# EAGLE library part SKY65383-11 (library SKY65383-11)
HIGH POWER 2.4-GHZ FEM Source: Datasheet <https://componentsearchengine.com/Datasheets/1/SKY65383-11.pdf>
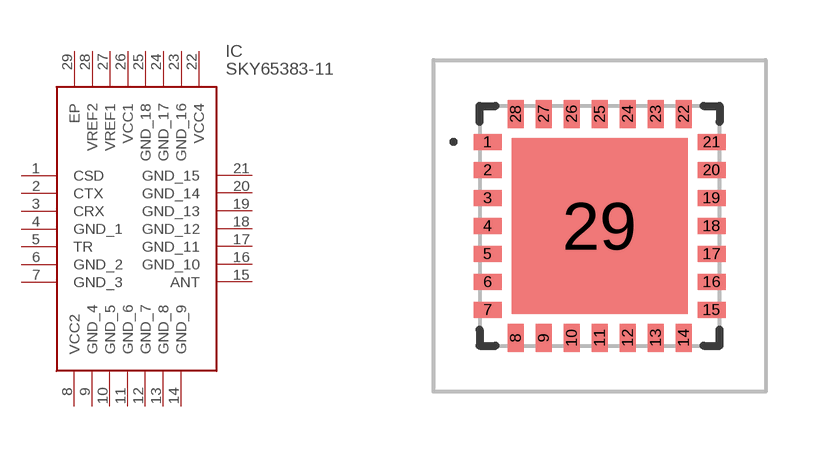
[diagram p0: symbol with the pads of SKY6538311; footprint SKY6538311]

Designator prefix IC

## SKY65383-11 (Description: HIGH POWER 2.4-GHZ FEM; Height: 0.95mm; Manufacturer_Name: Skyworks; Manufacturer_Part_Number: SKY65383-11; Mouser_Part_Number: 873-SKY65383-11; Mouser_Price-Stock: https://www.mouser.co.uk/ProductDetail/Skyworks-Solutions-Inc/SKY65383-11?qs=4FzvMsMEDjYVKiHkv3xavQ%3D%3D)  [SKY6538311]
1  CSD
2  CTX
3  CRX
4  GND_1
5  TR
6  GND_2
7  GND_3
8  VCC2
9  GND_4
10  GND_5
11  GND_6
12  GND_7
13  GND_8
14  GND_9
15  ANT
16  GND_10
17  GND_11
18  GND_12
19  GND_13
20  GND_14
21  GND_15
22  VCC4
23  GND_16
24  GND_17
25  GND_18
26  VCC1
27  VREF1
28  VREF2
29  EP

## Footprint SKY6538311 (pad centres in mm)
SKY65383-11
smd 0.7 x 0.4: 1 -2.8,2.1; 2 -2.8,1.4; 3 -2.8,0.7; 4 -2.8,0; 5 -2.8,-0.7; 6 -2.8,-1.4; 7 -2.8,-2.1; 15 2.8,-2.1; 16 2.8,-1.4; 17 2.8,-0.7; 18 2.8,0; 19 2.8,0.7; 20 2.8,1.4; 21 2.8,2.1
smd 0.4 x 0.7: 8 -2.1,-2.8; 9 -1.4,-2.8; 10 -0.7,-2.8; 11 0,-2.8; 12 0.7,-2.8; 13 1.4,-2.8; 14 2.1,-2.8; 22 2.1,2.8; 23 1.4,2.8; 24 0.7,2.8; 25 0,2.8; 26 -0.7,2.8; 27 -1.4,2.8; 28 -2.1,2.8
smd 4.4 x 4.4: 29 0,0